# Altium footprint library MiniPC.PcbLib: 1 footprints
Each footprint in its own frame and in the unit in brackets; x right, y up, seen from the top. Pads: shape width x height; smd on the part's side, far side on the other; paste and mask are expansions set on the pad; w line width, h text height; cw(c..) or ccw(c..) is an arc to the next point about the centre after c.

## Full Fan Mini [mm]
3D body "FULL FAN MINI.STEP": height 27.12, standoff -4.67, extent -35.625,-35.625 35.625,35.625